# EAGLE library part OPTOCOUPLER-4-AC (library IC & Transistor)
4 Channel Optocoupler, AC input. Created by: Wai Weng
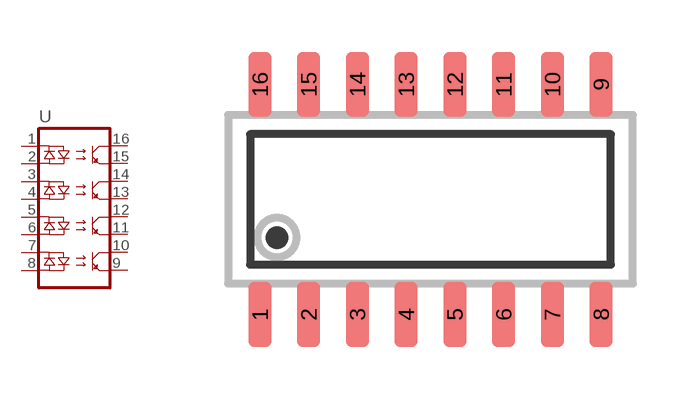
[diagram p69: symbol with the pads of SOIC-16N; footprint SOIC-16N]

Designator prefix U

## OPTOCOUPLER-4-AC_TCMT4600_(SOIC) (DESC: S Optocoupler AC 4CH SOIC-16; MF: Vishay Semiconductors; MPN: TCMT4600)  [SOIC-16N]
1  1
2  2
3  3
4  4
5  5
6  6
7  7
8  8
9  9
10  10
11  11
12  12
13  13
14  14
15  15
16  16

## Footprint SOIC-16N (pad centres in mm)
Small Outline Integrated Circuit (SOIC) Narrow (JEDEC) SOIC Package Size: 9.90 x 3.90mm / 10.55 x 4.4mm Lead Pitch: 1.27mm Created by: OoiBP
smd 0.6 x 1.7: 1 -4.445,-3; 2 -3.175,-3; 3 -1.905,-3; 4 -0.635,-3; 5 0.635,-3; 6 1.905,-3; 7 3.175,-3; 8 4.445,-3; 9 4.445,3; 10 3.175,3; 11 1.905,3; 12 0.635,3; 13 -0.635,3; 14 -1.905,3; 15 -3.175,3; 16 -4.445,3